# Altium footprint library Connectors1.PcbLib: 7 footprints
Each footprint in its own frame and in the unit in brackets; x right, y up, seen from the top. Pads: shape width x height; smd on the part's side, far side on the other; paste and mask are expansions set on the pad; w line width, h text height; cw(c..) or ccw(c..) is an arc to the next point about the centre after c.
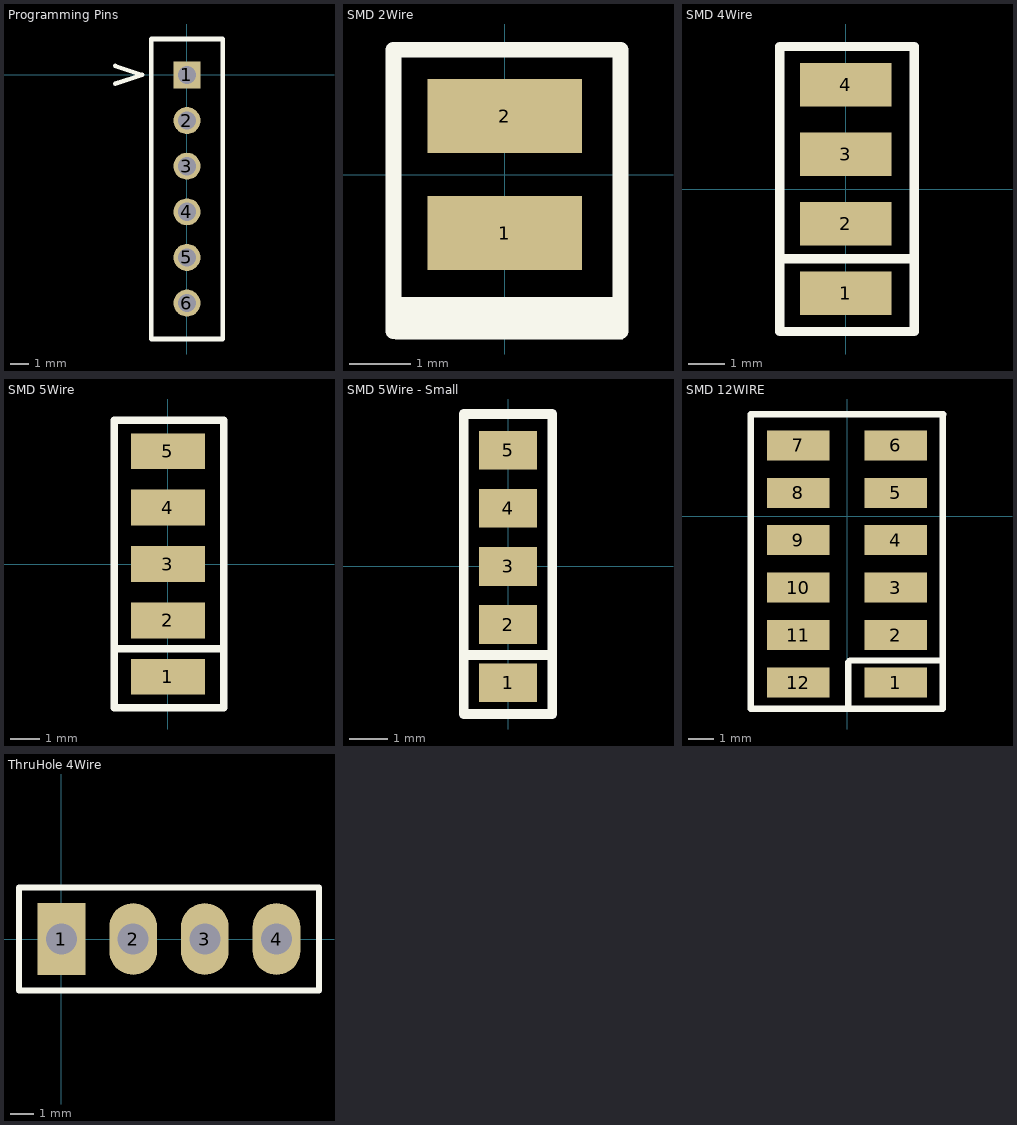
[diagram p0: the footprints below, top view; thin cyan lines are the x and y axes]

## Programming Pins [mm] "STM32 Micro Programming Pins"
pads (6):
  rect 1.5x1.5 hole 1.02: 1(0,0)
  round 1.5 hole 1.02: 2(0,-2.54) 3(0,-5.08) 4(0,-7.62) 5(0,-10.16) 6(0,-12.7)
Top Overlay:
  lines w0.254: -4,-0.5 -2.5,0 -4,0.5 ; 2,-14.5 2,2 ; 2,2 2,-14.7 -2,-14.7 -2,2 2,2
3D body "Pin Header 1x6 TH Pitch 2.54mm.stp": height 9.5, standoff -3.2, extent -1.27,-13.97 1.27,1.27

## SMD 2Wire [mm]
pads (2):
  rect 2.5x1.2 smd: 1(0,-0.95) 2(0,0.95)
Top Overlay:
  region: 1.878,-1.993 -1.805,-1.993 -1.805,-2.64 -1.778,-2.667 1.911,-2.667
  lines w0.254: -1.805,-1.993 -1.805,1.773 ; 1.878,-1.993 1.878,1.9 ; -1.805,-2.54 1.878,-2.54 1.878,2.027 -1.805,2.027 -1.805,-2.54

## SMD 4Wire [mm]
pads (4):
  rect 2.5x1.2 smd: 1(0,-2.85) 2(0,-0.95) 3(0,0.95) 4(0,2.85)
Top Overlay:
  lines w0.254: -1.778,-1.907 1.878,-1.907 ; 1.805,3.893 -1.805,3.893 ; -1.805,-3.893 1.878,-3.893 ; -1.805,-3.893 -1.805,3.893 ; -1.805,-3.893 -1.805,3.893 ; 1.878,-3.893 1.878,3.893 1.878,-3.893

## SMD 5Wire [mm]
pads (5):
  rect 2.5x1.2 smd: 1(0,-3.8) 2(0,-1.9) 3(0,0) 4(0,1.9) 5(0,3.8)
Top Overlay:
  lines w0.254: -1.805,-2.943 -1.805,4.843 1.805,4.843 ; -1.805,2.943 -1.805,-4.843 1.878,-4.843 1.878,2.943 ; -1.778,-2.857 1.878,-2.857 ; 1.878,-2.943 1.878,4.843

## SMD 5Wire - Small [mm]
pads (5):
  rect 1.5x1 smd: 1(0,-3) 2(0,-1.5) 3(0,0) 4(0,1.5) 5(0,3)
Top Overlay:
  lines w0.254: -1.143,2.943 -1.143,-3.81 1.143,-3.81 1.143,2.943 ; -1.143,-2.286 -1.143,3.937 1.143,3.937 1.143,-2.286 -1.143,-2.286

## SMD 12WIRE [mm]
pads (12):
  rect 2.5x1.2 smd: 1(1.95,-6.648) 2(1.95,-4.748) 3(1.95,-2.848) 4(1.95,-0.948) 5(1.95,0.948) 6(1.95,2.848) 7(-1.95,2.848) 8(-1.95,0.948) 9(-1.95,-0.948) 10(-1.95,-2.848) 11(-1.95,-4.748) 12(-1.95,-6.648)
Top Overlay:
  lines w0.254: -3.85,0.095 -3.85,-7.691 3.828,-7.691 3.828,0.095 ; -3.85,0.109 -3.85,4.095 ; -3.828,4.095 3.85,4.095 ; 0.057,-7.691 0.057,-5.822 0.122,-5.757 3.805,-5.757 ; 3.828,0.109 3.828,4.095

## ThruHole 4Wire [mm]
pads (4):
  rect 2x3 hole 1.3: 1(0,0)
  oval 2x3 hole 1.3: 2(3,0) 3(6,0) 4(9,0)
Top Overlay:
  lines w0.254: -1.778,-2.159 -1.778,2.159 10.778,2.159 10.778,-2.159 -1.778,-2.159